# Altium schematic symbol library MOLEX_MICROSD.SchLib: 1 symbol
Pins are listed as number, name and electrical type; pins without a type are passive.

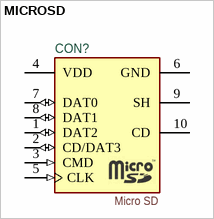
[diagram p0: symbol MICROSD]

## MICROSD
designator CON?, comment Micro SD
=Description; BUY_LINK: http://www.digikey.com/product-detail/en/0473521001/WM3290TR-ND/2404949; PDF: http://www.molex.com/pdm_docs/sd/473521001_sd.pdf; PRICE: 2.11684; ID: Micro SD
footprint MICROSD
pins: 1 DAT2 (io), 2 CD/DAT3 (io), 3 CMD (in), 4 VDD (power), 5 CLK (in), 6 GND (power), 7 DAT0 (io), 8 DAT1 (io), 9 SH, 10 CD